# EAGLE library part POLOLU_A4988_MOTOR_DRIVER (library POLOLU_A4988_MOTOR_DRIVER)
A4988 Stepper Motor Driver Carrier Pitch : 2.54mm //FCAM1//
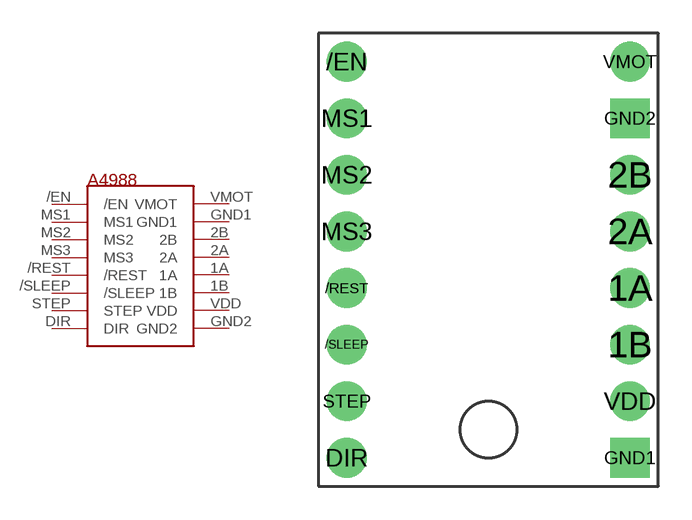
[diagram p0: symbol with the pads of POLOLU_A4988_MOTOR_DRIVER; footprint POLOLU_A4988_MOTOR_DRIVER]

Designator prefix -

## POLOLU_A4988_MOTOR_DRIVER  [POLOLU_A4988_MOTOR_DRIVER]
1A  1A
1B  1B
2A  2A
2B  2B
/EN  /EN
/REST  /REST
/SLEEP  /SLEEP
DIR  DIR
GND1  GND1
GND2  GND2
MS1  MS1
MS2  MS2
MS3  MS3
STEP  STEP
VDD  VDD
VMOT  VMOT

## Footprint POLOLU_A4988_MOTOR_DRIVER (pad centres in mm)
drill 0.9 pad 1.778: 1A 6.35,-1.27; 1B 6.35,-3.81; 2A 6.35,1.27; 2B 6.35,3.81; /EN -6.35,8.89; /REST -6.35,-1.27; /SLEEP -6.35,-3.81; DIR -6.35,-8.89; MS1 -6.35,6.35; MS2 -6.35,3.81; MS3 -6.35,1.27; STEP -6.35,-6.35; VDD 6.35,-6.35; VMOT 6.35,8.89
drill 0.9 pad 1.778 square: GND1 6.35,-8.89; GND2 6.35,6.35